# EAGLE library part GE863-GPS_DES (library _GE863)
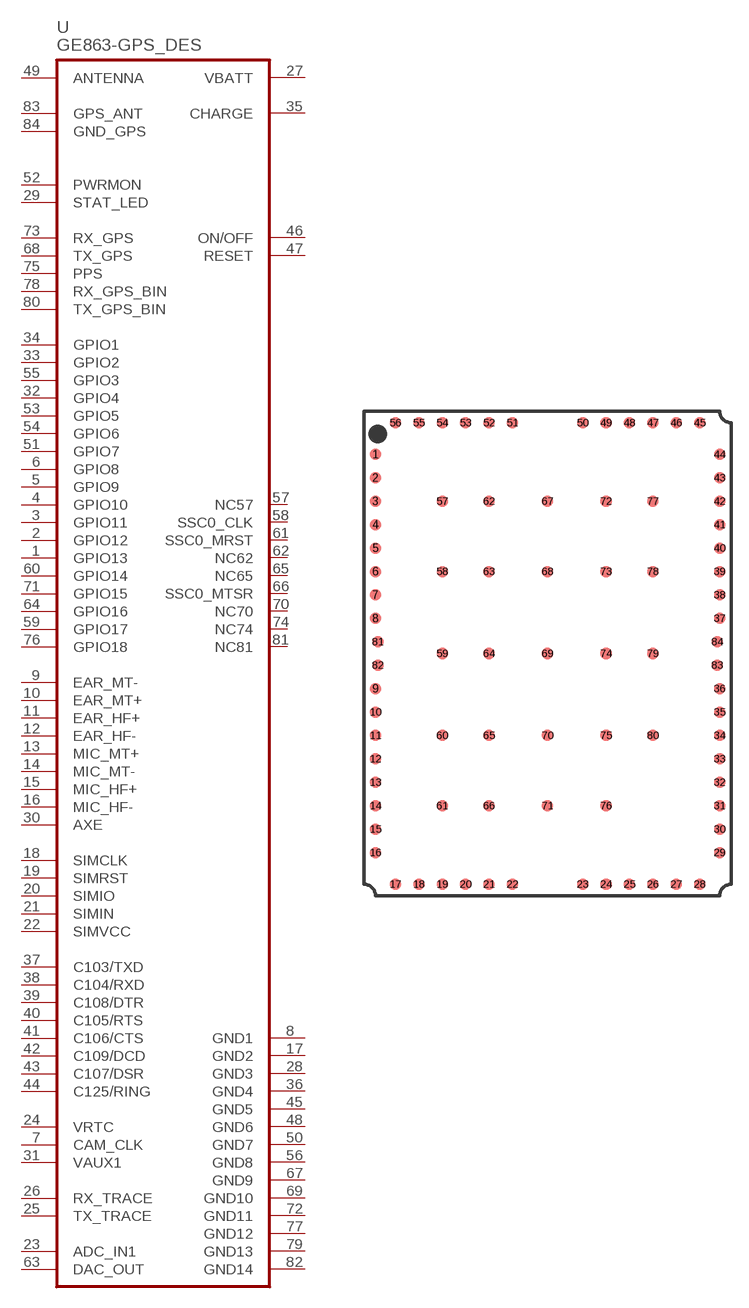
[diagram p2: symbol with the pads of GE863-GPS; footprint GE863-GPS]

Designator prefix -

## GE863-GPS_DES  [GE863-GPS]
1  GPIO13
2  GPIO12
3  GPIO11
4  GPIO10
5  GPIO9
6  GPIO8
7  CAM_CLK
8  GND1  pwr
9  EAR_MT-  pas
10  EAR_MT+  pas
11  EAR_HF+  pas
12  EAR_HF-  pas
13  MIC_MT+  pas
14  MIC_MT-  pas
15  MIC_HF+  pas
16  MIC_HF-  pas
17  GND2  pwr
18  SIMCLK  out
19  SIMRST  out
20  SIMIO
21  SIMIN  in
22  SIMVCC  pas
23  ADC_IN1  in
24  VRTC  pas
25  TX_TRACE  pas
26  RX_TRACE  pas
27  VBATT  pwr
28  GND3  pwr
29  STAT_LED  out
30  AXE  in
31  VAUX1  pas
32  GPIO4
33  GPIO2
34  GPIO1
35  CHARGE  pwr
36  GND4  pwr
37  C103/TXD  in
38  C104/RXD  out
39  C108/DTR  in
40  C105/RTS  in
41  C106/CTS  out
42  C109/DCD  out
43  C107/DSR  out
44  C125/RING  out
45  GND5  pwr
46  ON/OFF  in
47  RESET  in
48  GND6  pwr
49  ANTENNA  pas
50  GND7  pwr
51  GPIO7
52  PWRMON
53  GPIO5
54  GPIO6
55  GPIO3
56  GND8  pwr
57  NC57  nc
58  SSC0_CLK  nc
59  GPIO17
60  GPIO14
61  SSC0_MRST  nc
62  NC62  nc
63  DAC_OUT  out
64  GPIO16
65  NC65  nc
66  SSC0_MTSR  nc
67  GND9  pwr
68  TX_GPS  pas
69  GND10  pwr
70  NC70  nc
71  GPIO15
72  GND11  pwr
73  RX_GPS  pas
74  NC74  nc
75  PPS  out
76  GPIO18
77  GND12  pwr
78  RX_GPS_BIN  in
79  GND13  pwr
80  TX_GPS_BIN  out
81  NC81  nc
82  GND14  pwr
83  GPS_ANT  in
84  GND_GPS  pas

## Footprint GE863-GPS (pad centres in mm)
smd 1 x 1: 1 -14.7,17; 2 -14.7,15; 3 -14.7,13; 4 -14.7,11; 5 -14.7,9; 6 -14.7,7; 7 -14.7,5; 8 -14.7,3; 9 -14.7,-3; 10 -14.7,-5; 11 -14.7,-7; 12 -14.7,-9; 13 -14.7,-11; 14 -14.7,-13; 15 -14.7,-15; 16 -14.7,-17; 17 -13,-19.7; 18 -11,-19.7; 19 -9,-19.7; 20 -7,-19.7; 21 -5,-19.7; 22 -3,-19.7; 23 3,-19.7; 24 5,-19.7; 25 7,-19.7; 26 9,-19.7; 27 11,-19.7; 28 13,-19.7; 29 14.7,-17; 30 14.7,-15; 31 14.7,-13; 32 14.7,-11; 33 14.7,-9; 34 14.7,-7; 35 14.7,-5; 36 14.7,-3; 37 14.7,3; 38 14.7,5; 39 14.7,7; 40 14.7,9; 41 14.7,11; 42 14.7,13; 43 14.7,15; 44 14.7,17; 45 13,19.7; 46 11,19.7; 47 9,19.7; 48 7,19.7; 49 5,19.7; 50 3,19.7; 51 -3,19.7; 52 -5,19.7; 53 -7,19.7; 54 -9,19.7; 55 -11,19.7; 56 -13,19.7; 57 -9,13; 58 -9,7; 59 -9,0; 60 -9,-7; 61 -9,-13; 62 -5,13; 63 -5,7; 64 -5,0; 65 -5,-7; 66 -5,-13; 67 0,13; 68 0,7; 69 0,0; 70 0,-7; 71 0,-13; 72 5,13; 73 5,7; 74 5,0; 75 5,-7; 76 5,-13; 77 9,13; 78 9,7; 79 9,0; 80 9,-7; 81 -14.5,1; 82 -14.5,-1; 83 14.5,-1; 84 14.5,1